# EAGLE library part ALTIMETER (library UORocketry)
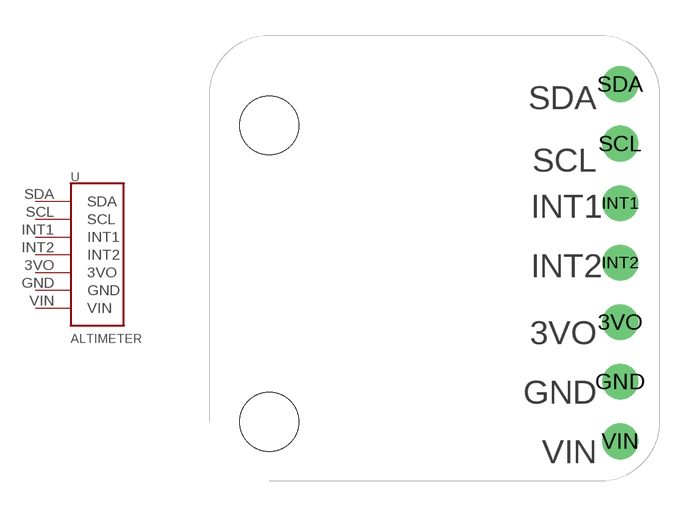
[diagram p6: symbol with the pads of ALTIMETER; footprint ALTIMETER]

Designator prefix -

## ALTIMETER  [ALTIMETER]
3VO  3VO
GND  GND
INT1  INT1
INT2  INT2
SCL  SCL
SDA  SDA
VIN  VIN

## Footprint ALTIMETER (pad centres in mm)
drill 1.016: 3VO 7.62,-1.905; GND 7.62,-4.445; INT1 7.62,3.175; INT2 7.62,0.635; SCL 7.62,5.715; SDA 7.62,8.255; VIN 7.62,-6.985
hole 2.5 at -7.347,6.5
hole 2.5 at -7.347,-6.16